# Altium footprint library Arduino_Nano_V3.3.PcbLib: 5 footprints
Each footprint in its own frame and in the unit in brackets; x right, y up, seen from the top. Pads: shape width x height; smd on the part's side, far side on the other; paste and mask are expansions set on the pad; w line width, h text height; cw(c..) or ccw(c..) is an arc to the next point about the centre after c.
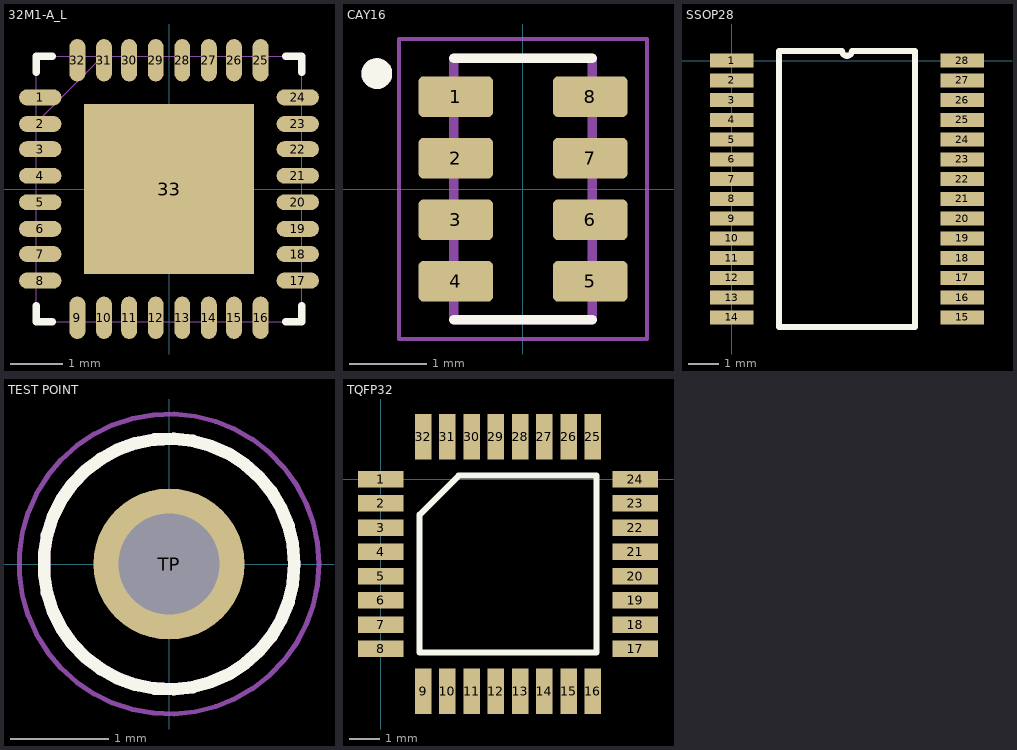
[diagram p0: the footprints below, top view; thin cyan lines are the x and y axes]

## 32M1-A_L [mil]
pads (33):
  oval 32x12 smd mask+2: 1(-97,69) 2(-97,49) 3(-97,30) 4(-97,10) 5(-97,-10) 6(-97,-30) 7(-97,-49) 8(-97,-69) 17(97,-69) 18(97,-49) 19(97,-30) 20(97,-10) 21(97,10) 22(97,30) 23(97,49) 24(97,69)
  oval 12x32 smd mask+2: 9(-69,-97) 10(-49,-97) 11(-30,-97) 12(-10,-97) 13(10,-97) 14(30,-97) 15(49,-97) 16(69,-97) 25(69,97) 26(49,97) 27(30,97) 28(10,97) 29(-10,97) 30(-30,97) 31(-49,97) 32(-69,97)
  rect 128x128 smd: 33(0,0)
Top Overlay:
  lines w6: -100,-88 -100,-100 -88,-100 ; -100,88 -100,100 -88,100 ; 88,-100 100,-100 100,-88 ; 88,100 100,100 100,88
Mechanical 13:
  lines w0: -100,-75 -100,-63 ; -100,-55 -100,-43 ; -100,-35 -100,-24 ; -100,-16 -100,-4 ; -100,4 -100,16 ; -100,24 -100,35 ; -100,43 -100,55 ; -100,50 -50,100 ; -100,63 -100,75 ; -75,-100 -63,-100 ; -75,100 -63,100 ; -55,-100 -43,-100 ; -55,100 -43,100 ; -35,-100 -24,-100 ; -35,100 -24,100 ; -16,-100 -4,-100 ; -16,100 -4,100 ; 4,-100 16,-100 ; 4,100 16,100 ; 24,-100 35,-100 ; 24,100 35,100 ; 43,-100 55,-100 ; 43,100 55,100 ; 63,-100 75,-100 ; 63,100 75,100 ; 100,-75 100,-63 ; 100,-55 100,-43 ; 100,-35 100,-24 ; 100,-16 100,-4 ; 100,4 100,16 ; 100,24 100,35 ; 100,43 100,55 ; 100,63 100,75 ; -100,-100 100,-100 100,100 -100,100 -100,-100
3D body "step_temp.STEP": height 39.37, standoff 0, extent -98.43,-98.43 98.43,98.43

## CAY16 [mm]
pads (8):
  rrect25% 0.97x0.53 smd: 1(-0.875,1.2) 2(-0.875,0.4) 3(-0.875,-0.4) 4(-0.875,-1.2) 5(0.875,-1.2) 6(0.875,-0.4) 7(0.875,0.4) 8(0.875,1.2)
Top Overlay:
  circle w0.2: c-1.9,1.5 r0.1
  lines w0.127: -0.9,-1.7 0.9,-1.7 ; -0.9,1.7 0.9,1.7
Mechanical 13:
  circle w0.2: c-1.9,1.5 r0.1
  lines w0.127: -0.9,-1.7 0.9,-1.7 0.9,1.7 -0.9,1.7 -0.9,-1.7
Mechanical 15:
  lines w0.05: -1.61,-1.95 1.61,-1.95 1.61,1.95 -1.61,1.95 -1.61,-1.95
3D body "step_temp.STEP": height 0.6, standoff 0, extent -0.8,-1.6 0.8,1.6

## SSOP28 [mm]
pads (28):
  rect 1.43x0.46 smd mask+0.06: 1(0,0) 2(0,-0.65) 3(0,-1.3) 4(0,-1.95) 5(0,-2.6) 6(0,-3.25) 7(0,-3.9) 8(0,-4.55) 9(0,-5.2) 10(0,-5.85) 11(0,-6.5) 12(0,-7.15) 13(0,-7.8) 14(0,-8.45) 15(7.59,-8.45) 16(7.59,-7.8) 17(7.59,-7.15) 18(7.59,-6.5) 19(7.59,-5.85) 20(7.59,-5.2) 21(7.59,-4.55) 22(7.59,-3.9) 23(7.59,-3.25) 24(7.59,-2.6) 25(7.59,-1.95) 26(7.59,-1.3) 27(7.59,-0.65) 28(7.59,0)
Top Overlay:
  lines w0.2: 1.55,-8.775 1.55,0.325 3.632,0.325 ccw(c3.795,0.325) 3.957,0.325 6.04,0.325 6.04,-8.775 1.55,-8.775
3D body "SSOP-28_FTD.step": height 2.01, standoff 0, extent -0.267,-9.436 7.633,1.054

## TEST POINT [mm]
pads (1):
  round 1.53 hole 1.02: TP(0,0)
Top Overlay:
  circle w0.127: c0,0 r1.27
Mechanical 13:
  circle w0.127: c0,0 r1.27
Mechanical 15:
  circle w0.05: c0,0 r1.52
3D body "step_temp.STEP": height 4.57, standoff -3.05, extent -1.27,-1.27 1.27,1.27

## TQFP32 [mm]
pads (32):
  rect 1.5x0.55 smd paste+0 mask+0.1: 1(0,0) 2(0,-0.8) 3(0,-1.6) 4(0,-2.4) 5(0,-3.2) 6(0,-4) 7(0,-4.8) 8(0,-5.6) 17(8.4,-5.6) 18(8.4,-4.8) 19(8.4,-4) 20(8.4,-3.2) 21(8.4,-2.4) 22(8.4,-1.6) 23(8.4,-0.8) 24(8.4,0)
  rect 0.55x1.5 smd paste+0 mask+0.1: 9(1.4,-7) 10(2.2,-7) 11(3,-7) 12(3.8,-7) 13(4.6,-7) 14(5.4,-7) 15(6.2,-7) 16(7,-7) 25(7,1.4) 26(6.2,1.4) 27(5.4,1.4) 28(4.6,1.4) 29(3.8,1.4) 30(3,1.4) 31(2.2,1.4) 32(1.4,1.4)
Top Overlay:
  lines w0.2: 1.285,-5.715 1.285,-1.17 2.57,0.115 7.115,0.115 7.115,-5.715 1.285,-5.715
3D body "User Library-TQFP32-1.sldprt": height 1.1, standoff 0, extent -0.318,-7.303 8.7,1.715